# Altium schematic symbol library Transformers.SchLib: 4 symbols
Pins are listed as number, name and electrical type; pins without a type are passive.

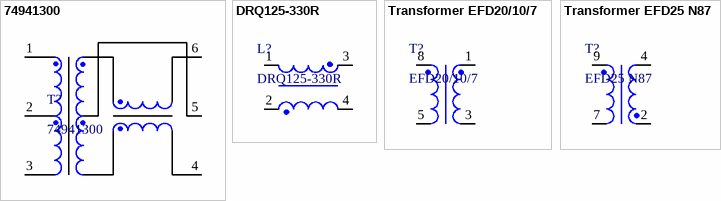
[diagram p0: symbols 74941300 to Transformer EFD25 N87]

## 74941300
designator T?
WE-BMS SMT TRANSFORMER -40C TO +
footprint 74941300
pins: 1, 2, 3, 4, 5, 6

## DRQ125-330R
designator L?
footprint DRQ125 (Coil)
pins: 1, 2, 3, 4

## Transformer EFD20/10/7
designator T?, comment EFD20/10/7
footprint Transformer EFD20/10/7 (CPHS-EFD20/7-1S-10P)
pins: 1, 3, 5, 8

## Transformer EFD25 N87
designator T?, comment EFD25 N87
footprint Transformer
pins: 2, 4, 7, 9